# EAGLE library part MAX6818 (library Max68x)
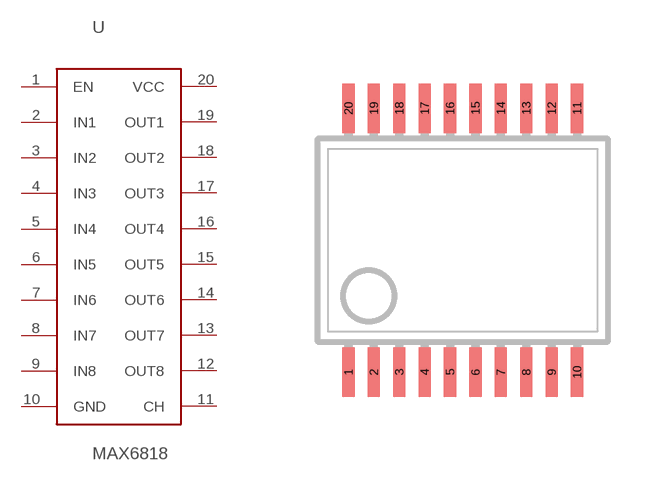
[diagram p1: symbol with the pads of SSOP20; footprint SSOP20]

Designator prefix -

## MAX6818  [SSOP20]
1  EN
2  IN1
3  IN2
4  IN3
5  IN4
6  IN5
7  IN6
8  IN7
9  IN8
10  GND  pwr
11  CH
12  OUT8
13  OUT7
14  OUT6
15  OUT5
16  OUT4
17  OUT3
18  OUT2
19  OUT1
20  VCC  pwr

## Footprint SSOP20 (pad centres in mm)
Small Shrink Outline Package
smd 0.305 x 1.245: 1 -2.857,-3.302; 2 -2.222,-3.302; 3 -1.587,-3.302; 4 -0.952,-3.302; 5 -0.317,-3.302; 6 0.318,-3.302; 7 0.953,-3.302; 8 1.588,-3.302; 9 2.223,-3.302; 10 2.858,-3.302; 11 2.858,3.302; 12 2.223,3.302; 13 1.588,3.302; 14 0.953,3.302; 15 0.318,3.302; 16 -0.317,3.302; 17 -0.952,3.302; 18 -1.587,3.302; 19 -2.222,3.302; 20 -2.857,3.302